# Altium footprint library samd51.PcbLib: 1 footprints
Each footprint in its own frame and in the unit in brackets; x right, y up, seen from the top. Pads: shape width x height; smd on the part's side, far side on the other; paste and mask are expansions set on the pad; w line width, h text height; cw(c..) or ccw(c..) is an arc to the next point about the centre after c.
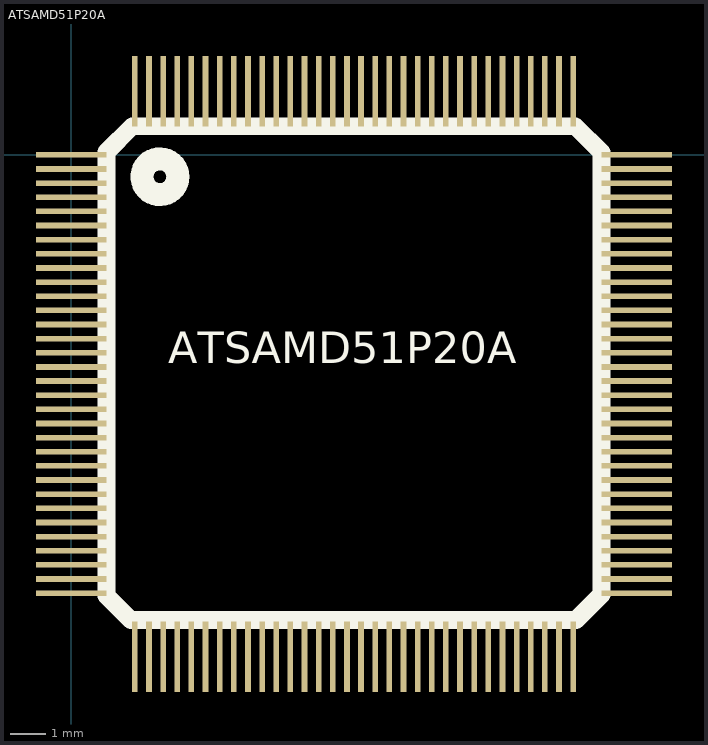
[diagram p0: the footprint, top view; thin cyan lines are the x and y axes]

## ATSAMD51P20A [mm]
pads (128):
  rect 2x0.16 smd: 1(0,0) 2(0,-0.4) 3(0,-0.8) 4(0,-1.2) 5(0,-1.6) 6(0,-2) 7(0,-2.4) 8(0,-2.8) 9(0,-3.2) 10(0,-3.6) 11(0,-4) 12(0,-4.4) 13(0,-4.8) 14(0,-5.2) 15(0,-5.6) 16(0,-6) 17(0,-6.4) 18(0,-6.8) 19(0,-7.2) 20(0,-7.6) 21(0,-8) 22(0,-8.4) 23(0,-8.8) 24(0,-9.2) 25(0,-9.6) 26(0,-10) 27(0,-10.4) 28(0,-10.8) 29(0,-11.2) 30(0,-11.6) 31(0,-12) 32(0,-12.4) 65(16,-12.4) 66(16,-12) 67(16,-11.6) 68(16,-11.2) 69(16,-10.8) 70(16,-10.4) 71(16,-10) 72(16,-9.6) 73(16,-9.2) 74(16,-8.8) 75(16,-8.4) 76(16,-8) 77(16,-7.6) 78(16,-7.2) 79(16,-6.8) 80(16,-6.4) 81(16,-6) 82(16,-5.6) 83(16,-5.2) 84(16,-4.8) 85(16,-4.4) 86(16,-4) 87(16,-3.6) 88(16,-3.2) 89(16,-2.8) 90(16,-2.4) 91(16,-2) 92(16,-1.6) 93(16,-1.2) 94(16,-0.8) 95(16,-0.4) 96(16,0)
  rect 0.16x2 smd: 33(1.8,-14.2) 34(2.2,-14.2) 35(2.6,-14.2) 36(3,-14.2) 37(3.4,-14.2) 38(3.8,-14.2) 39(4.2,-14.2) 40(4.6,-14.2) 41(5,-14.2) 42(5.4,-14.2) 43(5.8,-14.2) 44(6.2,-14.2) 45(6.6,-14.2) 46(7,-14.2) 47(7.4,-14.2) 48(7.8,-14.2) 49(8.2,-14.2) 50(8.6,-14.2) 51(9,-14.2) 52(9.4,-14.2) 53(9.8,-14.2) 54(10.2,-14.2) 55(10.6,-14.2) 56(11,-14.2) 57(11.4,-14.2) 58(11.8,-14.2) 59(12.2,-14.2) 60(12.6,-14.2) 61(13,-14.2) 62(13.4,-14.2) 63(13.8,-14.2) 64(14.2,-14.2) 97(14.2,1.8) 98(13.8,1.8) 99(13.4,1.8) 100(13,1.8) 101(12.6,1.8) 102(12.2,1.8) 103(11.8,1.8) 104(11.4,1.8) 105(11,1.8) 106(10.6,1.8) 107(10.2,1.8) 108(9.8,1.8) 109(9.4,1.8) 110(9,1.8) 111(8.6,1.8) 112(8.2,1.8) 113(7.8,1.8) 114(7.4,1.8) 115(7,1.8) 116(6.6,1.8) 117(6.2,1.8) 118(5.8,1.8) 119(5.4,1.8) 120(5,1.8) 121(4.6,1.8) 122(4.2,1.8) 123(3.8,1.8) 124(3.4,1.8) 125(3,1.8) 126(2.6,1.8) 127(2.2,1.8) 128(1.8,1.8)
Top Overlay:
  circle w0.254: c2.51,-0.62 r0.309
  circle w0.254: c2.51,-0.62 r0.484
  circle w0.254: c2.51,-0.62 r0.706
  lines w0.5: 1,-12.47 1.69,-13.16 14.28,-13.16 14.96,-12.48 15,-12.44 15,0.07 14.26,0.81 1.73,0.81 1,0.08 1,-12.47
  text "ATSAMD51P20A" at 2.74,-6.19 h1.52
Mechanical 1:
  lines w0.254: 1,-12.47 1.04,-12.47 1.02,-12.47 ; 1.72,0.8 1.72,0.81 ; 14.27,0.8 14.27,0.81 ; 14.96,-12.48 15,-12.48